# EAGLE library part GT-24-NRF24LO1 (library CanCubeSat)
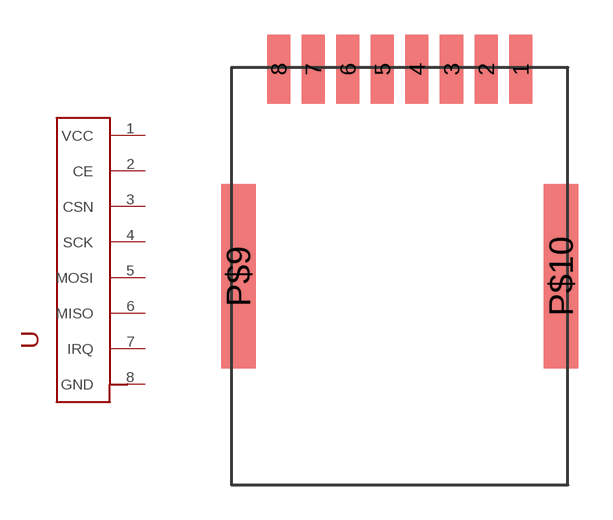
[diagram p32: symbol with the pads of GT-24-NRF24LO1; footprint GT-24-NRF24LO1]

Designator prefix -

## GT-24-NRF24LO1  [GT-24-NRF24LO1]
1  VCC
2  CE
3  CSN
4  SCK
5  MOSI
6  MISO
7  IRQ
8  GND

## Footprint GT-24-NRF24LO1 (pad centres in mm)
smd 1 x 3: 1 5.25,9; 2 3.75,9; 3 2.25,9; 4 0.75,9; 5 -0.75,9; 6 -2.25,9; 7 -3.75,9; 8 -5.25,9
smd 1.5 x 8: P$9 -7,0; P$10 7,0